# Altium footprint library blecontrollerPCB1_master.PcbLib: 180 footprints (part 11 of 12)
Each footprint in its own frame and in the unit in brackets; x right, y up, seen from the top. Pads: shape width x height; smd on the part's side, far side on the other; paste and mask are expansions set on the pad; w line width, h text height; cw(c..) or ccw(c..) is an arc to the next point about the centre after c.
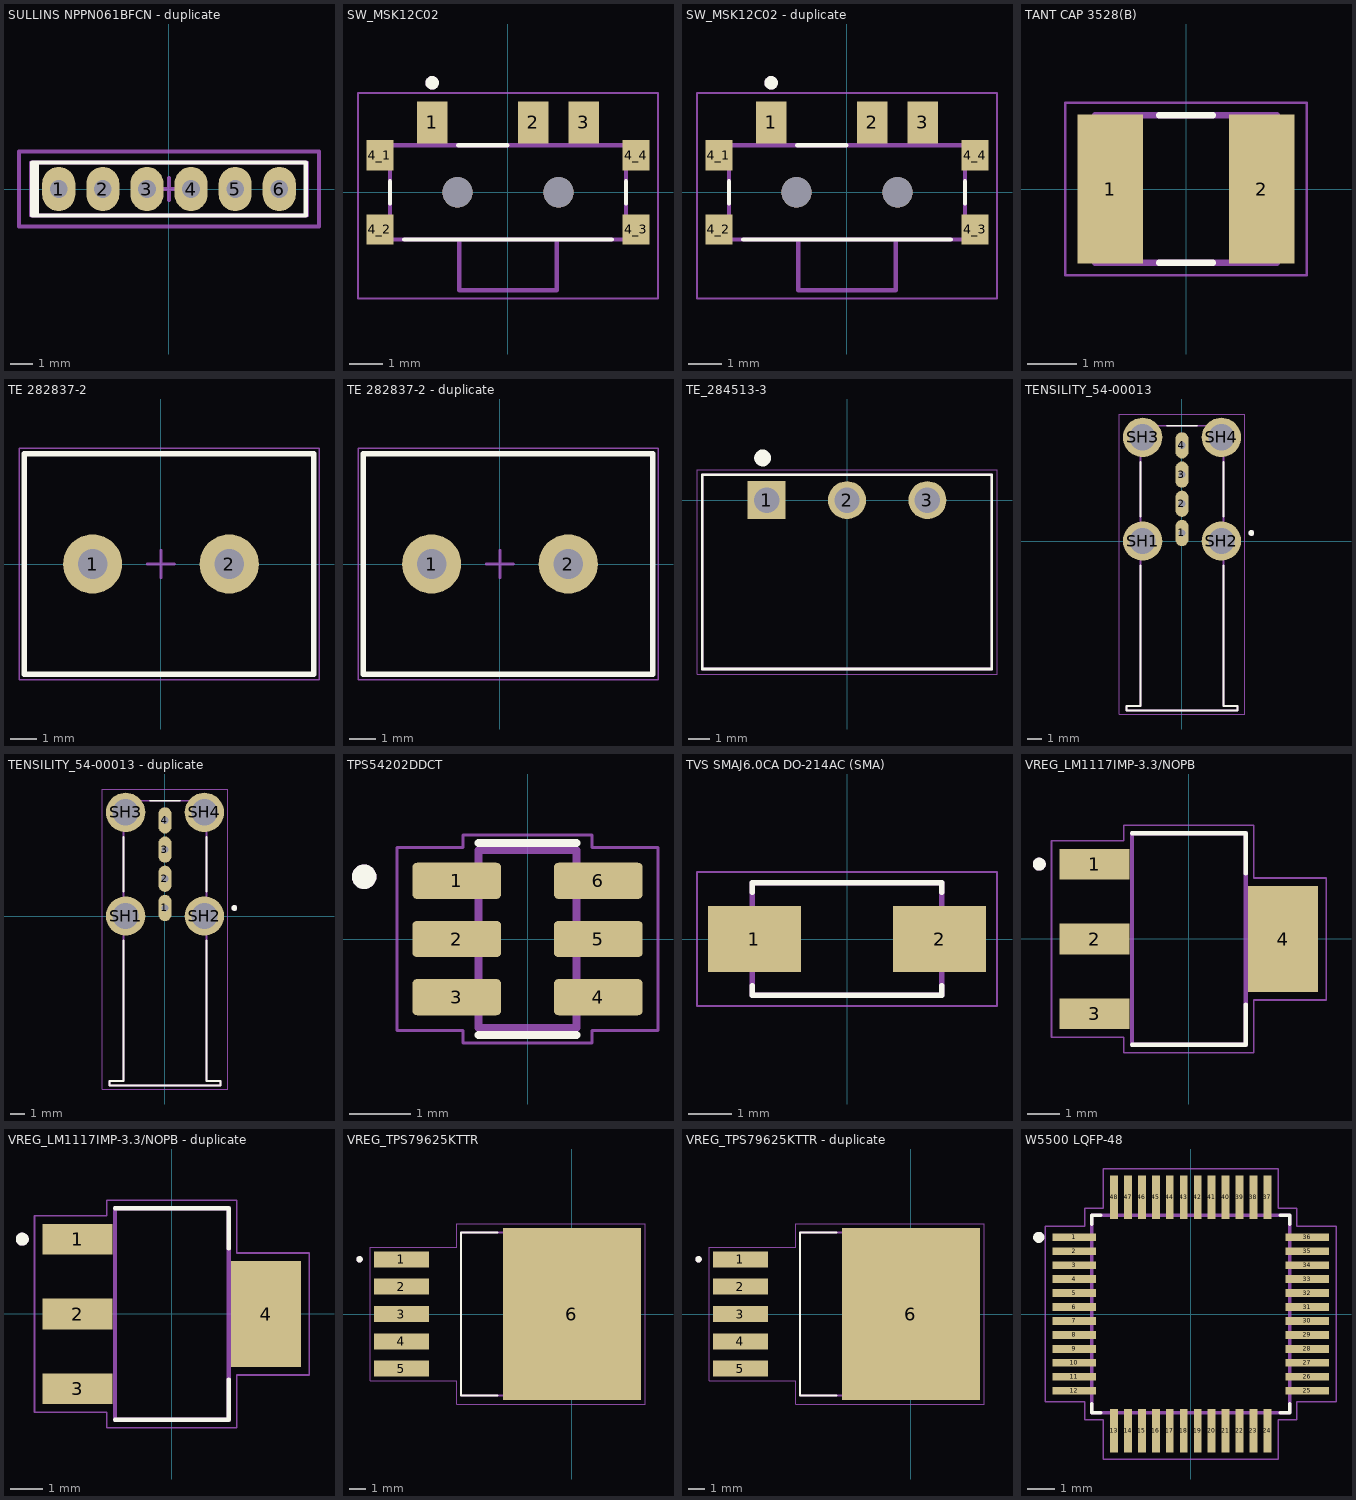
[diagram p10: the footprints below, top view; thin cyan lines are the x and y axes]

## SULLINS NPPN061BFCN - duplicate [mm]
pads (6):
  oval 1.5x2 hole 0.8: 1(-5,0) 2(-3,0) 3(-1,0) 4(1,0) 5(3,0) 6(5,0)
Top Overlay:
  lines w0.2: -6,-1.2 -6,1.2 ; -6.2,-1.2 -6.2,1.2 6.2,1.2 6.2,-1.2 -6.2,-1.2
Mechanical 1:
  lines w0.2: -6.25,-1.2 -6.25,1.2 6.25,1.2 6.25,-1.2 -6.25,-1.2
Mechanical 15:
  lines w0.2: -0.5,0 0.5,0 ; 0,-0.5 0,0.5 ; -6.8,-1.7 -6.8,1.7 6.8,1.7 6.8,-1.7 -6.8,-1.7
3D body "Sullins NPPN061BFCN-RC.STEP": height 4.41, standoff -2.39, extent -6.25,-1.2 6.25,1.2

## SW_MSK12C02 [mm]
pads (9):
  rect 0.9x1.25 smd paste+0 mask+0.102: 1(-2.25,2.075) 2(0.75,2.075) 3(2.25,2.075)
  rect 0.8x0.9 smd paste+0 mask+0.102: 4_1(-3.8,1.1) 4_2(-3.8,-1.1) 4_3(3.8,-1.1) 4_4(3.8,1.1)
  round 0.9 hole 0.9 unplated mask+0: ""(-1.5,0) ""(1.5,0)
Top Overlay:
  circle w0.2: c-2.25,3.25 r0.1
  lines w0.127: -3.5,-0.33 -3.5,0.33 ; -3.08,-1.4 3.08,-1.4 ; -1.48,1.4 -0.02,1.4 ; 3.5,-0.33 3.5,0.33
Mechanical 13:
  circle w0.2: c-2.25,3.25 r0.1
  lines w0.127: -1.45,-1.4 1.45,-1.4 ; -1.45,-1.4 -3.5,-1.4 -3.5,1.4 3.5,1.4 3.5,-1.4 1.45,-1.4 ; -1.45,-1.4 -1.45,-2.9 1.45,-2.9 1.45,-1.4
Mechanical 15:
  lines w0.05: -4.45,-3.15 4.45,-3.15 4.45,2.95 -4.45,2.95 -4.45,-3.15
3D body "step_temp.STEP": height 1.5, standoff -0.55, extent -4,-2.75 4,2.4

## SW_MSK12C02 - duplicate [mm]
pads (9):
  rect 0.9x1.25 smd paste+0 mask+0.102: 1(-2.25,2.075) 2(0.75,2.075) 3(2.25,2.075)
  rect 0.8x0.9 smd paste+0 mask+0.102: 4_1(-3.8,1.1) 4_2(-3.8,-1.1) 4_3(3.8,-1.1) 4_4(3.8,1.1)
  round 0.9 hole 0.9 unplated mask+0: ""(-1.5,0) ""(1.5,0)
Top Overlay:
  circle w0.2: c-2.25,3.25 r0.1
  lines w0.127: -3.5,-0.33 -3.5,0.33 ; -3.08,-1.4 3.08,-1.4 ; -1.48,1.4 -0.02,1.4 ; 3.5,-0.33 3.5,0.33
Mechanical 13:
  circle w0.2: c-2.25,3.25 r0.1
  lines w0.127: -1.45,-1.4 1.45,-1.4 ; -1.45,-1.4 -3.5,-1.4 -3.5,1.4 3.5,1.4 3.5,-1.4 1.45,-1.4 ; -1.45,-1.4 -1.45,-2.9 1.45,-2.9 1.45,-1.4
Mechanical 15:
  lines w0.05: -4.45,-3.15 4.45,-3.15 4.45,2.95 -4.45,2.95 -4.45,-3.15
3D body "step_temp.STEP": height 1.5, standoff -0.55, extent -4,-2.75 4,2.4

## TANT CAP 3528(B) [mm] "10 ÂµF Molded Tantalum Polymer Capacitor 25 V 1411 (3528 Metric), 1210 150mOhm TCJB106M025R0150"
pads (2):
  rect 1.34x3.02 smd: 1(-1.54,0) 2(1.54,0)
Top Overlay:
  lines w0.127: -0.55,-1.5 0.55,-1.5 ; -0.55,1.5 0.55,1.5
Mechanical 13:
  lines w0.127: -1.85,-1.5 -1.85,1.5 1.85,1.5 1.85,-1.5 -1.85,-1.5
Mechanical 15:
  lines w0.05: -2.458,-1.75 -2.458,1.75 2.458,1.75 2.458,-1.75 -2.458,-1.75
3D body "step_temp.STEP": height 2.1, standoff 0, extent -1.75,-1.4 1.75,1.4

## TE 282837-2 [mm]
pads (2):
  round 2.2 hole 1.1: 1(-2.54,0) 2(2.54,0)
Top Overlay:
  lines w0.2: -5.08,-4.1 5.68,-4.1 5.68,4.1 -5.08,4.1 -5.08,-4.1
Mechanical 13:
  lines w0.1: -5.08,-4.1 -5.08,4.1 5.68,4.1 5.68,-4.1 -5.08,-4.1
Mechanical 15:
  lines w0.05: -5.28,-4.3 5.88,-4.3 5.88,4.3 -5.28,4.3 -5.28,-4.3
  lines w0.1: -0.508,0 0,0 ; 0,-0.508 0,0 ; 0,0.508 0,0 ; 0.508,0 0,0
3D body "TE - 282837-2.STEP": height 10.3, standoff -3.8, extent -5.08,-4.1 5.68,4.1

## TE 282837-2 - duplicate [mm]
pads (2):
  round 2.2 hole 1.1: 1(-2.54,0) 2(2.54,0)
Top Overlay:
  lines w0.2: -5.08,-4.1 5.68,-4.1 5.68,4.1 -5.08,4.1 -5.08,-4.1
Mechanical 13:
  lines w0.1: -5.08,-4.1 -5.08,4.1 5.68,4.1 5.68,-4.1 -5.08,-4.1
Mechanical 15:
  lines w0.05: -5.28,-4.3 5.88,-4.3 5.88,4.3 -5.28,4.3 -5.28,-4.3
  lines w0.1: -0.508,0 0,0 ; 0,-0.508 0,0 ; 0,0.508 0,0 ; 0.508,0 0,0
3D body "TE - 282837-2.STEP": height 10.3, standoff -3.8, extent -5.08,-4.1 5.68,4.1

## TE_284513-3 [mm]
pads (3):
  rect 1.8x1.8 / inner round 1.8 / far side rect 1.8x1.8 hole 1.2: 1(-3.81,0)
  round 1.8 hole 1.2: 2(0,0) 3(3.81,0)
Top Overlay:
  circle w0.4: c-4,2 r0.2
  lines w0.127: -6.86,-8 6.86,-8 6.86,1.2 -6.86,1.2 -6.86,-8
Mechanical 13:
  lines w0.127: -6.86,-8 -6.86,1.2 6.86,1.2 6.86,-8 -6.86,-8
Mechanical 15:
  lines w0.05: -7.11,-8.25 -7.11,1.45 7.11,1.45 7.11,-8.25 -7.11,-8.25
3D body "step_temp.STEP": height 7.3, standoff -3.4, extent -6.86,-8.001 6.86,1.199

## TENSILITY_54-00013 [mm]
pads (8):
  oval 0.9x1.8 hole 0.5 square: 1(0,0.55) 2(0,2.55) 3(0,4.55) 4(0,6.55)
  round 2.7 hole 1.8: SH1(-2.7,0) SH2(2.7,0) SH3(-2.7,7.1) SH4(2.7,7.1)
Top Overlay:
  circle w0.2: c4.75,0.55 r0.1
  lines w0.127: -2.85,-1.67 -2.85,-11.3 -3.8,-11.3 -3.8,-11.6 3.8,-11.6 3.8,-11.3 2.85,-11.3 2.85,-1.67 ; -2.85,1.67 -2.85,5.43 ; -1.03,7.9 1.03,7.9 ; 2.85,1.67 2.85,5.43
Mechanical 13:
  circle w0.2: c4.75,0.55 r0.1
  lines w0.127: -3.8,-11.6 -3.8,-11.3 -2.85,-11.3 -2.85,7.9 2.85,7.9 2.85,-11.3 3.8,-11.3 3.8,-11.6 -3.8,-11.6
Mechanical 15:
  lines w0.05: -4.3,-11.85 4.3,-11.85 4.3,8.7 -4.3,8.7 -4.3,-11.85
3D body "step_temp.STEP": height 14.7, standoff -3.5, extent -3.8,-11.8 3.8,7.7

## TENSILITY_54-00013 - duplicate [mm]
pads (8):
  oval 0.9x1.8 hole 0.5 square: 1(0,0.55) 2(0,2.55) 3(0,4.55) 4(0,6.55)
  round 2.7 hole 1.8: SH1(-2.7,0) SH2(2.7,0) SH3(-2.7,7.1) SH4(2.7,7.1)
Top Overlay:
  circle w0.2: c4.75,0.55 r0.1
  lines w0.127: -2.85,-1.67 -2.85,-11.3 -3.8,-11.3 -3.8,-11.6 3.8,-11.6 3.8,-11.3 2.85,-11.3 2.85,-1.67 ; -2.85,1.67 -2.85,5.43 ; -1.03,7.9 1.03,7.9 ; 2.85,1.67 2.85,5.43
Mechanical 13:
  circle w0.2: c4.75,0.55 r0.1
  lines w0.127: -3.8,-11.6 -3.8,-11.3 -2.85,-11.3 -2.85,7.9 2.85,7.9 2.85,-11.3 3.8,-11.3 3.8,-11.6 -3.8,-11.6
Mechanical 15:
  lines w0.05: -4.3,-11.85 4.3,-11.85 4.3,8.7 -4.3,8.7 -4.3,-11.85
3D body "step_temp.STEP": height 14.7, standoff -3.5, extent -3.8,-11.8 3.8,7.7

## TPS54202DDCT [mm] "4.5V to 28V Input, 2A Output, EMI Friendly Synchronous Step-Down Converter SOT23-6"
pads (6):
  rrect25% 1.45x0.59 smd: 1(-1.155,0.95) 2(-1.155,0) 3(-1.155,-0.95) 4(1.155,-0.95) 5(1.155,0) 6(1.155,0.95)
Top Overlay:
  circle w0.2: c-2.667,1.016 r0.1
  lines w0.127: -0.8,-1.565 0.8,-1.565 ; -0.8,1.565 0.8,1.565
Mechanical 13:
  circle w0.2: c-2.667,1.016 r0.1
  lines w0.127: -0.8,-1.45 0.8,-1.45 0.8,1.45 -0.8,1.45 -0.8,-1.45
Mechanical 15:
  lines w0.05: -2.13,-1.495 -1.05,-1.495 -1.05,-1.7 1.05,-1.7 1.05,-1.495 2.13,-1.495 2.13,1.495 1.05,1.495 1.05,1.7 -1.05,1.7 -1.05,1.495 -2.13,1.495 -2.13,-1.495
3D body "step_temp.STEP": height 1.1, standoff 0, extent -1.4,-1.45 1.4,1.45

## TVS SMAJ6.0CA DO-214AC (SMA) [mm] "SMAJ6.0CA WG Bidirectional TVS diode littlefuse DO-214AC (SMA)"
pads (2):
  rect 2.12x1.5 smd: 1(-2.115,0) 2(2.115,0)
Top Overlay:
  lines w0.127: -2.165,-1.07 -2.165,-1.28 2.165,-1.28 2.165,-1.07 ; -2.165,1.07 -2.165,1.28 2.165,1.28 2.165,1.07
Mechanical 13:
  lines w0.127: -2.165,-1.28 2.165,-1.28 2.165,1.28 -2.165,1.28 -2.165,-1.28
Mechanical 15:
  lines w0.05: -3.425,-1.53 3.425,-1.53 3.425,1.53 -3.425,1.53 -3.425,-1.53
3D body "SMAJ5.0A.STEP": height 2.5, standoff 0, extent -2.57,-1.153 2.57,1.407

## VREG_LM1117IMP-3.3/NOPB [mm]
pads (4):
  rect 2.15x0.95 smd: 1(-2.9,2.3) 2(-2.9,0) 3(-2.9,-2.3)
  rect 2.15x3.25 smd: 4(2.9,0)
Top Overlay:
  circle w0.2: c-4.6,2.3 r0.1
  lines w0.127: -1.75,-3.25 1.75,-3.25 1.75,-2.01 ; -1.75,3.25 1.75,3.25 1.75,2.01
Mechanical 13:
  circle w0.2: c-4.6,2.3 r0.1
  lines w0.127: -1.75,-3.25 1.75,-3.25 1.75,3.25 -1.75,3.25 -1.75,-3.25
Mechanical 15:
  lines w0.05: -4.225,-3.025 -2,-3.025 -2,-3.5 2,-3.5 2,-1.875 4.225,-1.875 4.225,1.875 2,1.875 2,3.5 -2,3.5 -2,3.025 -4.225,3.025 -4.225,-3.025
3D body "step_temp.STEP": height 1.8, standoff 0, extent -3.499,-3.25 3.499,3.25

## VREG_LM1117IMP-3.3/NOPB - duplicate [mm]
pads (4):
  rect 2.15x0.95 smd: 1(-2.9,2.3) 2(-2.9,0) 3(-2.9,-2.3)
  rect 2.15x3.25 smd: 4(2.9,0)
Top Overlay:
  circle w0.2: c-4.6,2.3 r0.1
  lines w0.127: -1.75,-3.25 1.75,-3.25 1.75,-2.01 ; -1.75,3.25 1.75,3.25 1.75,2.01
Mechanical 13:
  circle w0.2: c-4.6,2.3 r0.1
  lines w0.127: -1.75,-3.25 1.75,-3.25 1.75,3.25 -1.75,3.25 -1.75,-3.25
Mechanical 15:
  lines w0.05: -4.225,-3.025 -2,-3.025 -2,-3.5 2,-3.5 2,-1.875 4.225,-1.875 4.225,1.875 2,1.875 2,3.5 -2,3.5 -2,3.025 -4.225,3.025 -4.225,-3.025
3D body "step_temp.STEP": height 1.8, standoff 0, extent -3.499,-3.25 3.499,3.25

## VREG_TPS79625KTTR [mm]
pads (6):
  rect 3.4x1 smd paste-0.05 mask+0.07: 1(-10.6,3.4) 2(-10.6,1.7) 3(-10.6,0) 4(-10.6,-1.7) 5(-10.6,-3.4)
  rect 8.6x10.7 smd paste-0.05 mask+0.07: 6(0,0)
Top Overlay:
  circle w0.2: c-13.2,3.4 r0.1
  lines w0.127: -4.62,-5.08 -6.905,-5.08 -6.905,5.08 -4.62,5.08
Mechanical 13:
  circle w0.2: c-13.2,3.4 r0.1
  lines w0.127: -6.905,-5.08 2.02,-5.08 2.02,5.08 -6.905,5.08 -6.905,-5.08
Mechanical 15:
  lines w0.05: -12.55,-4.15 -12.55,4.15 -7.155,4.15 -7.155,5.6 4.55,5.6 4.55,-5.6 -7.155,-5.6 -7.155,-4.15 -12.55,-4.15
3D body "step_temp.STEP": height 4.8, standoff 0, extent -12.475,-5.08 1.876,5.08

## VREG_TPS79625KTTR - duplicate [mm]
pads (6):
  rect 3.4x1 smd paste-0.05 mask+0.07: 1(-10.6,3.4) 2(-10.6,1.7) 3(-10.6,0) 4(-10.6,-1.7) 5(-10.6,-3.4)
  rect 8.6x10.7 smd paste-0.05 mask+0.07: 6(0,0)
Top Overlay:
  circle w0.2: c-13.2,3.4 r0.1
  lines w0.127: -4.62,-5.08 -6.905,-5.08 -6.905,5.08 -4.62,5.08
Mechanical 13:
  circle w0.2: c-13.2,3.4 r0.1
  lines w0.127: -6.905,-5.08 2.02,-5.08 2.02,5.08 -6.905,5.08 -6.905,-5.08
Mechanical 15:
  lines w0.05: -12.55,-4.15 -12.55,4.15 -7.155,4.15 -7.155,5.6 4.55,5.6 4.55,-5.6 -7.155,-5.6 -7.155,-4.15 -12.55,-4.15
3D body "step_temp.STEP": height 4.8, standoff 0, extent -12.475,-5.08 1.876,5.08

## W5500 LQFP-48 [mm] "W5500 LQFP-48 Hardwired TCP/IP embedded Ethernet controller QFP50P900X900X160-48N"
pads (48):
  rect 1.56x0.28 smd: 1(-4.18,2.75) 2(-4.18,2.25) 3(-4.18,1.75) 4(-4.18,1.25) 5(-4.18,0.75) 6(-4.18,0.25) 7(-4.18,-0.25) 8(-4.18,-0.75) 9(-4.18,-1.25) 10(-4.18,-1.75) 11(-4.18,-2.25) 12(-4.18,-2.75) 25(4.18,-2.75) 26(4.18,-2.25) 27(4.18,-1.75) 28(4.18,-1.25) 29(4.18,-0.75) 30(4.18,-0.25) 31(4.18,0.25) 32(4.18,0.75) 33(4.18,1.25) 34(4.18,1.75) 35(4.18,2.25) 36(4.18,2.75)
  rect 0.28x1.56 smd: 13(-2.75,-4.18) 14(-2.25,-4.18) 15(-1.75,-4.18) 16(-1.25,-4.18) 17(-0.75,-4.18) 18(-0.25,-4.18) 19(0.25,-4.18) 20(0.75,-4.18) 21(1.25,-4.18) 22(1.75,-4.18) 23(2.25,-4.18) 24(2.75,-4.18) 37(2.75,4.18) 38(2.25,4.18) 39(1.75,4.18) 40(1.25,4.18) 41(0.75,4.18) 42(0.25,4.18) 43(-0.25,4.18) 44(-0.75,4.18) 45(-1.25,4.18) 46(-1.75,4.18) 47(-2.25,4.18) 48(-2.75,4.18)
Top Overlay:
  circle w0.2: c-5.45,2.75 r0.1
  lines w0.127: -3.55,-3.22 -3.55,-3.55 -3.22,-3.55 ; -3.55,3.22 -3.55,3.55 -3.22,3.55 ; 3.22,-3.55 3.55,-3.55 3.55,-3.22 ; 3.22,3.55 3.55,3.55 3.55,3.22
Mechanical 13:
  drawing of 52 lines, arcs and shapes, not listed
Mechanical 15:
  lines w0.05: -5.21,-3.14 -5.21,3.14 -3.8,3.14 -3.8,3.8 -3.14,3.8 -3.14,5.21 3.14,5.21 3.14,3.8 3.8,3.8 3.8,3.14 5.21,3.14 5.21,-3.14 3.8,-3.14 3.8,-3.8 3.14,-3.8 3.14,-5.21 -3.14,-5.21 -3.14,-3.8 -3.8,-3.8 -3.8,-3.14 -5.21,-3.14
3D body "W5500--3DModel-STEP-56544.STEP": height 1.6, standoff 0, extent -4.5,-4.5 4.5,4.5